# Altium integrated library LED Dice v1.IntLib: 16 symbols
Pins are listed as number, name and electrical type; pins without a type are passive.

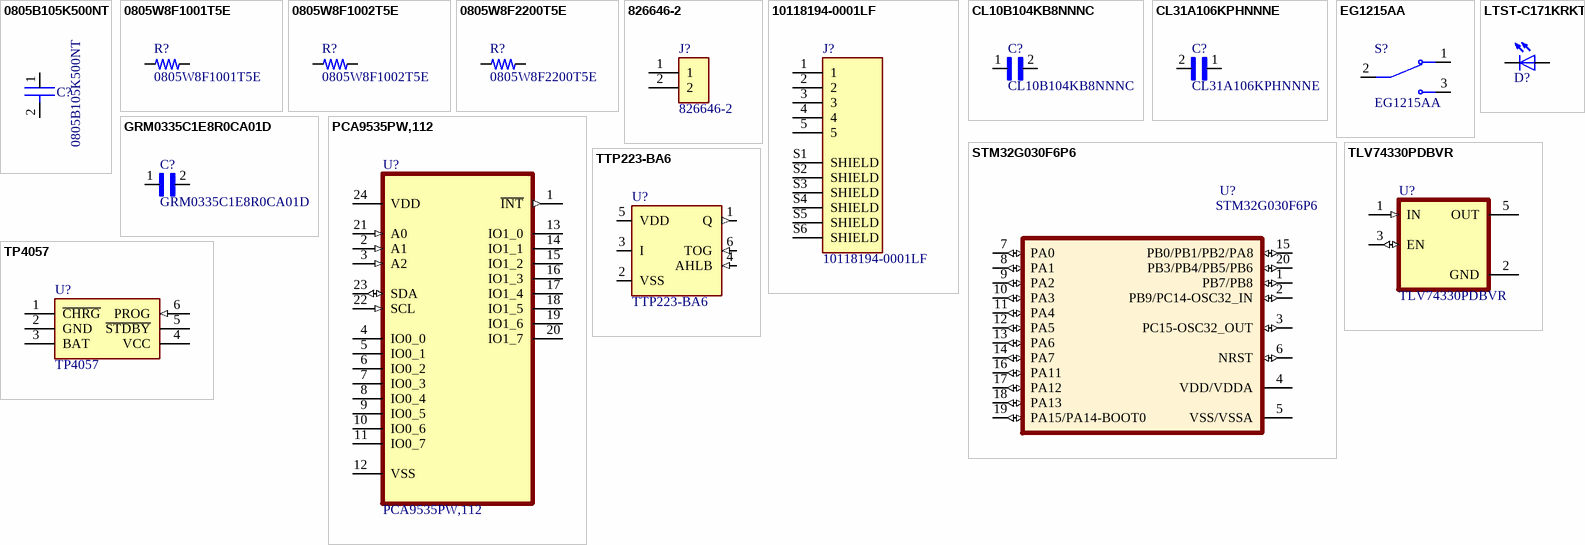
[diagram p0: symbols 0805B105K500NT to TTP223-BA6]

## 0805B105K500NT
designator C?
50V 1uF X7R ±10% 0805 Multilayer Ceramic Capacitors MLCC - SMD/SMT ROHS
footprint CAPC2012X135N
pins: 1 A, 2 C

## 0805W8F1001T5E
designator R?
125mW Thick Film Resistors 150V ±100ppm/℃ ±1% 1kΩ 0805 Chip Resistor - Surface Mount ROHS; Supplier 1: Mouser; Supplier Part Number 1: 303-0805W8F1001T5E
footprint RESC2012X65N
pins: 1, 2

## 0805W8F1002T5E
designator R?
125mW Thick Film Resistors 150V ±100ppm/℃ ±1% 10kΩ 0805 Chip Resistor - Surface Mount ROHS
footprint RESC2012X65N
pins: 1, 2

## 0805W8F2200T5E
designator R?
220Ω 0805 125mW Thick Film Resistors 150V ±100ppm/℃ ±1%  Chip Resistor - Surface Mount ROHS
footprint RESC2012X65N
pins: 1, 2

## 826646-2
designator J?
Conn Unshrouded Header HDR 2 POS 2.54mm Solder ST Thru-Hole; Centerline_Pitch: 2.54 mm[.1 in]; Product_Type: Connector; MF: TE Connectivity; Number_of_Positions: 2; Availability: Good; Price: None; EU_RoHS_Compliance: Compliant; Value: *; DigiKey-Purchase-URL: https://snapeda.com/shop?store=DigiKey&id=470405; Mouser-Purchase-URL: https://snapeda.com/shop?store=Mouser&id=470405; SnapEDA_Link: https://www.snapeda.com/parts/826646-2/TE%20Connectivity%20AMP%20Connectors/view-part/470405/?ref=snap; Package: None; MP: 826646-2
footprint TE_826646-2
footprint TE_826646-2
pins: 1, 2

## 10118194-0001LF
designator J?
Micro USB, Input Output Connectors, B TYPE RECEPTACLE with flange; MF: Amphenol ICC; Package: None; Price: None; Check_prices: https://www.snapeda.com/parts/10118194-0001LF/Amphenol+FCI/view-part/?ref=eda; Value: *; SnapEDA_Link: https://www.snapeda.com/parts/10118194-0001LF/Amphenol+FCI/view-part/?ref=snap; MP: 10118194-0001LF; Availability: In Stock; Purchase-URL: https://pricing.snapeda.com/search/part/10118194-0001LF/?ref=eda
footprint AMPHENOL_10118194-0001LF
pins: 1, 2, 3, 4, 5, S1 SHIELD, S2 SHIELD, S3 SHIELD, S4 SHIELD, S5 SHIELD, S6 SHIELD

## CL10B104KB8NNNC
designator C?
0.1ÂµF Â±10% 50V Ceramic Capacitor X7R 0603 _1608 Metric_; MF: Samsung Electro-Mechanics; Price: None; MP: CL10B104KB8NNNC; SnapEDA_Link: https://www.snapeda.com/parts/CL10B104KB8NNNC/Samsung%20Electro-Mechanics/view-part/3598309/?ref=snap; Availability: Unavailable; Package: 0603 Samsung; Value: *
footprint CAPC1608X90N
pins: 1, 2

## CL31A106KPHNNNE
designator C?
Cap Ceramic 10uF 10VDC X5R 10% SMD 1206 Embossed T/R; Package: None; Price: None; Value: *; MP: CL31A106KPHNNNE; Availability: Unavailable
footprint CAPC3216X180N
footprint CAPC3216X180N
pins: 1, 2

## EG1215AA
designator S?
Slide Switch SPDT Surface Mount, Right Angle; MF: E-Switch; Check_prices: https://www.snapeda.com/parts/EG1215AA/E-Switch/view-part/?ref=eda; SnapEDA_Link: https://www.snapeda.com/parts/EG1215AA/E-Switch/view-part/?ref=snap; Value: *; Purchase-URL: https://pricing.snapeda.com/search/part/EG1215AA/?ref=eda; Package: None; MP: EG1215AA
footprint SW_EG1215AA
pins: 1, 2, 3

## GRM0335C1E8R0CA01D
designator C?
SMD Capacitor C0G(EIA) with Capacitance: 8.0pF Tol. 0.25pF. Rated Voltage: 25Vdc; Package: None; Price: None; Value: *; MP: GRM0335C1E8R0CA01D; Availability: Unavailable
footprint CAPC0603X33N
footprint CAPC1608X90N
pins: 1, 2

## LTST-C171KRKT
designator D?  (value not drawn)
Red LED  0805 _2012 Indication 631nm - Discrete 2V 0805 _2012 Metric_; MF: Lite-On Inc.; MP: LTST-C171KRKT; Package: 0805 Lite-On; Price: None; Availability: Unavailable; SnapEDA_Link: https://www.snapeda.com/parts/LTST-C171KRKT/Lite-On%20Inc./view-part/357775/?ref=snap; Value: *
footprint DIOC200X125X110
pins: NEG, POS

## PCA9535PW,112
designator U?
16-bit I2C-bus and SMBus, low power I/O port with interrupt; Package: None; Price: None; Value: *; MP: PCA9535PW,112; Availability: Unavailable
footprint SOP65P640X110-24N
pins: 1 ~{INT} (out), 2 A1 (in), 3 A2 (in), 4 IO0_0, 5 IO0_1, 6 IO0_2, 7 IO0_3, 8 IO0_4, 9 IO0_5, 10 IO0_6, 11 IO0_7, 12 VSS, 13 IO1_0, 14 IO1_1, 15 IO1_2, 16 IO1_3, 17 IO1_4, 18 IO1_5, 19 IO1_6, 20 IO1_7, 21 A0 (in), 22 SCL (in), 23 SDA (io), 24 VDD (power)

## STM32G030F6P6
designator U?
ARMÂ® CortexÂ®-M0+ STM32G0 Microcontroller IC 32-Bit Single-Core 64MHz 32KB (32K x 8) FLASH 20-TSSOP; MF: STMicroelectronics; SnapEDA_Link: https://www.snapeda.com/parts/STM32G030F6P6/STMicroelectronics/view-part/?ref=snap; Package: TSSOP-20 STMicroelectronics; MP: STM32G030F6P6; Check_prices: https://www.snapeda.com/parts/STM32G030F6P6/STMicroelectronics/view-part/?ref=eda; Value: *
footprint *TSSOP20
pins: 1 PB7/PB8 (io), 2 PB9/PC14-OSC32_IN (io), 3 PC15-OSC32_OUT (io), 4 VDD/VDDA (power), 5 VSS/VSSA (power), 6 NRST (io), 7 PA0 (io), 8 PA1 (io), 9 PA2 (io), 10 PA3 (io), 11 PA4 (io), 12 PA5 (io), 13 PA6 (io), 14 PA7 (io), 15 PB0/PB1/PB2/PA8 (io), 16 PA11 (io), 17 PA12 (io), 18 PA13 (io), 19 PA15/PA14-BOOT0 (io), 20 PB3/PB4/PB5/PB6 (io)

## TLV74330PDBVR
designator U?
300-mA low-IQ low-dropout (LDO) voltage regulator with enable 5-SOT-23 -40 to 125; MF: Texas Instruments; Package: SOT-23-5 Texas Instruments; Check_prices: https://www.snapeda.com/parts/TLV74330PDBVR/Texas%20Instruments/view-part/2878367/?ref=eda; Price: None; SnapEDA_Link: https://www.snapeda.com/parts/TLV74330PDBVR/Texas%20Instruments/view-part/2878367/?ref=snap; Value: *; MP: TLV74330PDBVR; Purchase-URL: https://pricing.snapeda.com/search/part/TLV74330PDBVR/?ref=eda; Availability: Warning
footprint SOT95P280X145-5N
pins: 1 IN (in), 2 GND (power), 3 EN (io), 5 OUT (power)

## TP4057
designator U?
<b>500mA linear li-ion battery charger</b><p> tp4057 actual charge current to 500ma, dual-lamp indication, reverse battery protection.<br> Alternative to MAX1551 or MAX1555 (not compatible!)<p> Datasheet from TP micro: <br> http://www.tpmicro.com/datasheet/TP4057Ver1.0_preview.pdf <br> http://www.tp-asic.com/te_product_a/2009-05-20/33.chtml; MF: toppower; SnapEDA_Link: https://www.snapeda.com/parts/TP4057/Top+Power/view-part/?ref=snap; Package: None; MP: TP4057; Check_prices: https://www.snapeda.com/parts/TP4057/Top+Power/view-part/?ref=eda; Price: None; Value: *; Availability: Not in stock
footprint SOT23-6
pins: 1 ~{CHRG} (oc), 2 GND (power), 3 BAT (power), 4 VCC (power), 5 ~{STDBY} (oc), 6 PROG (in)

## TTP223-BA6
designator U?
<b>DÃ©tecteur</b> de Touches Tactiles IC<p> Doc constructeur <a href="http://geii/magasin/pdf/TTP223-BA6.pdf" title="Enlarge picture"> <img src="http://geii/magasin/images/pdf.jpg"></a><p> <b>GEII/IUT ANGERS</b>; MF: tontek; Value: *; SnapEDA_Link: https://www.snapeda.com/parts/TTP223-BA6/TONTEK/view-part/?ref=snap; Price: None; Availability: Not in stock; Package: None; MP: TTP223-BA6; Check_prices: https://www.snapeda.com/parts/TTP223-BA6/TONTEK/view-part/?ref=eda
footprint SOT23-6
footprint SOT23-6
pins: 1 Q (out), 2 VSS (power), 3 I (io), 4 AHLB (in), 5 VDD (power), 6 TOG (in)